# Altium schematic symbol library MMT_Connectors_Buttons_Switches.SchLib: 45 symbols
Pins are listed as number, name and electrical type; pins without a type are passive.

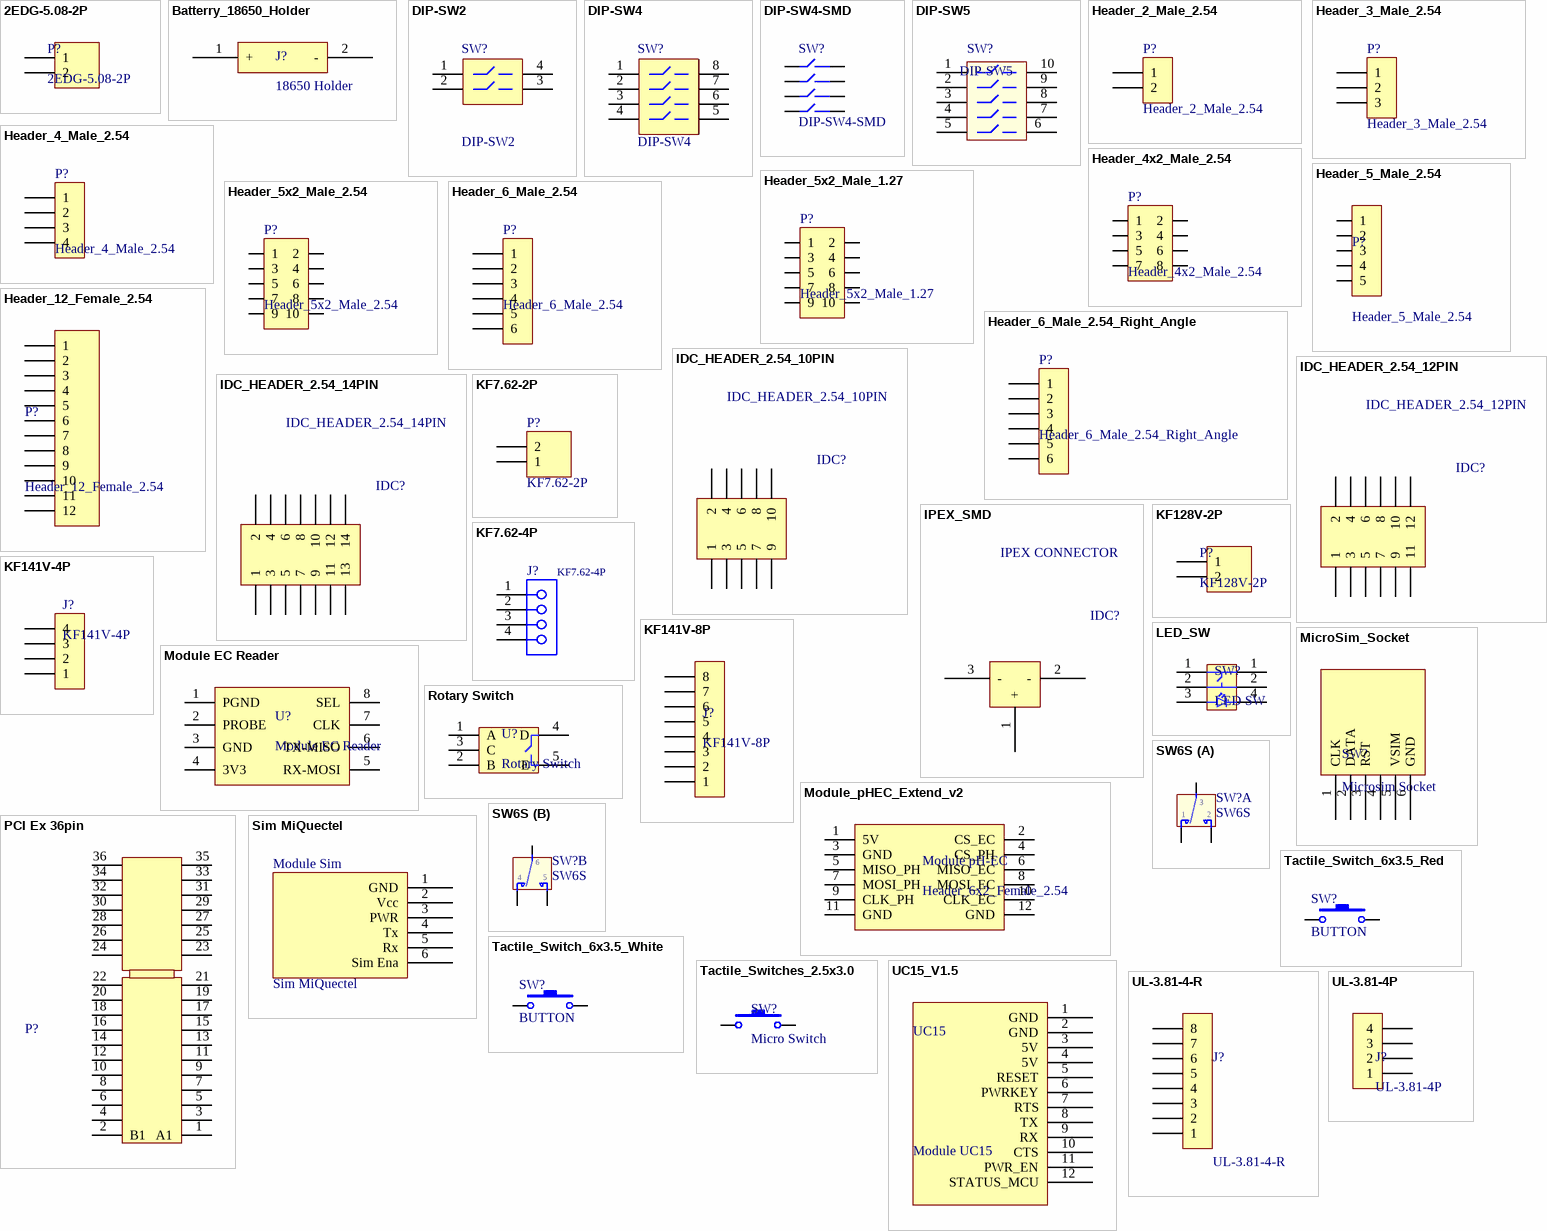
[diagram p0: symbols 2EDG-5.08-2P to UL-3.81-4P]

## 2EDG-5.08-2P
designator P?
Pluggable Terminal Blocks WR-TBL PCB Model 311 2Pin 5.08mm Cls Vtcl; Manufacturer: Wurth Elektronik; Part Number: 691311500102; Ex Price: 0.34; VN Price: 3000; Voltage/Wattage: 300V - 20A; Ex Supplier: https://www.mouser.vn/ProductDetail/Wurth-Elektronik/691311500102?qs=%2Fha2pyFaduhL3k1l8cITJNpuw5ctJaUN5kmE3D1IKhn6PrUHnsDfng%3D%3D; VN Supplier: https://thegioiic.com/products/terminal-block-2-chan-5-08-chan-thang-2edg-5-08-2p
footprint Terminal block 2Pin 5.08
pins: 1, 2

## Batterry_18650_Holder
designator J?, comment 18650 Holder
Cylindrical Battery Contacts, Clips, Holders & Springs 18650 SOLDER TAIL BATTERY HOLDER; Manufacturer: Keystone Electronics; Part Number: 1044; VN Price: 5500; Value: XH 4 pin pitch 2.54mm; Ex Price: 2.58; VN Supplier: https://thegioiic.com/products/de-pin-1x18650-han-pcb; Ex Supplier: https://www.mouser.vn/ProductDetail/Keystone-Electronics/1044?qs=sGAEpiMZZMvxqoKe%252BDjhrv8iQKYue1QF3iRAG8bJ8WC8IESDVkGZsQ==
footprint Battery 18650 Holder
pins: 1 +, 2 -

## DIP-SW2
designator SW?
2P-DSW, Pitch 2.54mm, RED, 50VDC 100mA; Manufacturer: Diptronics; Part Number: NDS-02V; Ex Price: 0.944; VN Price: 1880; Value: Dip Switch 2; Ex Supplier: https://www.mouser.vn/ProductDetail/Diptronics/NDS-02V?qs=sGAEpiMZZMv%2F%252B2JhlA6ysMFHxGixpP3prWf2laWpcr0%3D; VN Supplier: https://thegioiic.com/products/cong-tac-2bit-gat-top-dip-switch
footprint DIP SW 2P (2 PIN, W 400mil , L 450mil, Pin to pin 100mil For Switch)
pins: 1, 2, 3, 4

## DIP-SW4
designator SW?
4P-DSW, Pitch 2.54mm, RED, 50VDC 100mA; Manufacturer: Diptronics; Part Number: NDS-04V; Ex Price: 0.986; VN Price: 2870; Value: Dip Switch 4; Ex Supplier: https://www.mouser.vn/ProductDetail/Diptronics/NDS-04V?qs=sGAEpiMZZMv%2F%252B2JhlA6ysMFHxGixpP3pKeg53gIL1FQ%3D; VN Supplier: https://thegioiic.com/products/cong-tac-4bit-gat-top-dip-switch
footprint DIP SW 4P (8 PIN, W 400mil , L 450mil, Pin to pin 100mil For Switch)
pins: 1, 2, 3, 4, 5, 6, 7, 8

## DIP-SW4-SMD
designator SW?
Manufacturer: CTS Electronic Components; Part Number: 210-4MS; Ex Price: 0.55; VN Price: 4400; Voltage/Wattage: 50VDC/100mA; Ex Supplier: https://www.mouser.vn/ProductDetail/CTS-Electronic-Components/210-4MS?qs=sGAEpiMZZMv%2F%252B2JhlA6ysCW5ZokGCVhUlsBZXj97Ur0%3D; VN Supplier: https://thegioiic.com/products/cong-tac-4-bit-smd
footprint DIP SW 4P SMD
pins: 1, 2, 3, 4, 5, 6, 7, 8

## DIP-SW5
designator SW?
5P-DSW, Pitch 2.54MM, RED, 50Vdc 100mA; Manufacturer: Diptronics; Part Number: NDS-05V; VN Price: 3100; Value: Dip Switch 5; Ex Price: 1.72; VN Supplier: https://thegioiic.com/products/cong-tac-5-bit-gat-top-dip-switch; Ex Supplier: https://www.mouser.vn/ProductDetail/Diptronics/NDS-05V?qs=sGAEpiMZZMv%2F%252B2JhlA6ysNO310kSljHRTKm6401Towo=
footprint DIP SW 5P (10 PIN, W 400mil , L 450mil, Pin to pin 100mil For Switch)
pins: 1, 2, 3, 4, 5, 6, 7, 8, 9, 10

## Header_2_Male_2.54
designator P?
2.54mm 2x1 Single Male Pin Header; Manufacturer: Molex; VN Price: 200; Value: Header 2; Voltage/Wattage: 500V/4A; Ex Price: 0.096; VN Supplier: http://www.tme.vn/Product.aspx?id=518#page=pro_info; Ex Supplier: https://www.mouser.vn/ProductDetail/Molex/22-28-5023?qs=sGAEpiMZZMs%252BGHln7q6pm0R%252BIqgWC%252BQx%252BZP1khnW%252BIc%3D; Part Number: 22-28-5023
footprint HEADER_2_MALE
pins: 1, 2

## Header_3_Male_2.54
designator P?
2.54mm 3x1 Single Male Pin Header; Manufacturer: Molex; Ex Price: 0.27; VN Price: 2500; Value: Header 3; Voltage/Wattage: 500V/4A; Part Number: 22-28-8031; Ex Supplier: https://www.mouser.vn/ProductDetail/Molex/22-28-8031?qs=sGAEpiMZZMs%252BGHln7q6pmxD%2F5kNJnZVed6%252BwF0egRXs%3D; VN Supplier: http://www.tme.vn/Product.aspx?id=518#page=pro_info
footprint HEADER_3_MALE
pins: 1, 2, 3

## Header_4_Male_2.54
designator P?
2.54mm 4x1 Single Male Pin Header; Manufacturer: Molex; Ex Price: 0.34; VN Price: 2500; Value: Header 4; Voltage/Wattage: 500V/4A; Part Number: 22-28-8041; Ex Supplier: https://www.mouser.vn/ProductDetail/Molex/22-28-8041?qs=%2Fha2pyFadui70NFvRAbn%252BC%2FfLTOVR6y0%2FPOCLhktbL8%3D; VN Supplier: http://tme.vn/Product.aspx?id=518
footprint HEADER_4_MALE
pins: 1, 2, 3, 4

## Header_4x2_Male_2.54
designator P?
2.54mm 4x2 Male Pin Header; Manufacturer: MINTRON; Part Number: MTP125-1204S1; Ex Price: 0.86; VN Price: 4000; Voltage/Wattage: 500V/4A; Ex Supplier: https://lcsc.com/product-detail/Pin-Header-Female-Header_MINTRON-MTP125-1204S1_C358693.html; VN Supplier: http://www.tme.vn/Product.aspx?id=516#page=pro_info
footprint HEADER_4x2_MALE
pins: 1, 2, 3, 4, 5, 6, 7, 8

## Header_5_Male_2.54
designator P?
2.54mm 5 Male Pin Header; Manufacturer: MINTRON; Part Number: MTP125-1105S1; Ex Price: 0.025; VN Price: 700; Voltage/Wattage: 500V/4A; Ex Supplier: https://lcsc.com/product-detail/Pin-Header-Female-Header_MINTRON-MTP125-1105S1_C358687.html; VN Supplier: https://www.thegioiic.com/products/hang-rao-duc-don-2-54mm-40-chan-1-hang-cao-11-4mm-xuyen-lo
footprint HEADER_5_MALE_2.54
pins: 1, 2, 3, 4, 5

## Header_5x2_Male_1.27
designator P?
1.27mm 5x2 Male Pin Header; Manufacturer: Amphenol ICC; Part Number: 20021111-00010T4LF; Ex Price: 0.91; VN Price: 8000; Voltage/Wattage: 500V/4A; Ex Supplier: https://lcsc.com/product-detail/Pin-Header-Female-Header_Amphenol-ICC_20021111-00010T4LF_Amphenol-ICC-20021111-00010T4LF_C239059.html; VN Supplier: https://www.thegioiic.com/products/hang-rao-duc-doi-1-27mm-80-chan-2-hang-cao-7-2mm-xuyen-lo
footprint HEADER_5x2_MALE_1.27
pins: 1, 2, 3, 4, 5, 6, 7, 8, 9, 10

## Header_5x2_Male_2.54
designator P?
2.54mm 5x2 Male Pin Header; Manufacturer: MINTRON; Part Number: MTP125-1205S1; Ex Price: 0.053; VN Price: 1700; Voltage/Wattage: 500V/4A; Ex Supplier: https://lcsc.com/product-detail/Pin-Header-Female-Header_MINTRON-MTP125-1205S1_C358694.html; VN Supplier: https://www.thegioiic.com/products/hang-rao-duc-doi-2-54mm-80-chan-2-hang-cao-11-6mm-xuyen-lo
footprint HEADER_5x2_MALE_2.54
pins: 1, 2, 3, 4, 5, 6, 7, 8, 9, 10

## Header_6_Male_2.54
designator P?
2.54mm 6x1 Single Male Pin Header; Manufacturer: Molex; Ex Price: 0.44; VN Price: 2500; Value: Header 6; Voltage/Wattage: 500V/4A; Part Number: 22-28-8061; Ex Supplier: https://www.mouser.vn/ProductDetail/Molex/22-28-8061?qs=%2Fha2pyFadui70NFvRAbn%252BMxwCCe%2Fj8AV%2Frz%2FBwLPv6E=; VN Supplier: http://tme.vn/Product.aspx?id=518
footprint HEADER_6_MALE
pins: 1, 2, 3, 4, 5, 6

## Header_6_Male_2.54_Right_Angle
designator P?
2.54mm 6x1 Single Male Pin Header Right Angle; Manufacturer: Amphenol FCI; Part Number: 68016-406HLF; Ex Price: 0.36; VN Price: 950; Value: Header 6; Voltage/Wattage: 500V/4A; Ex Supplier: https://www.mouser.vn/ProductDetail/Amphenol-FCI/68016-406HLF?qs=sGAEpiMZZMs%252BGHln7q6pm2nKUjHUi6l6nMPj9nf11v0%3D; VN Supplier: https://thegioiic.com/products/hang-rao-2-54-duc-don-1x40pin-chan-cong-6mm
footprint HEADER_6_MALE_RIGHT_ANGLE
pins: 1, 2, 3, 4, 5, 6

## Header_12_Female_2.54
designator P?
2.54mm 12x1 Single Female Pin Header; Manufacturer: HOAUC; Part Number: 2685Y-112CNG1SNA01; Ex Price: 0.078461; VN Price: 2500; Value: Header 12 Female 2.54; Voltage/Wattage: 1A; Ex Supplier: https://lcsc.com/product-detail/Pin-Header-Female-Header_HOAUC-2685Y-112CNG1SNA01_C350303.html; VN Supplier: https://thegioiic.com/products/hang-rao-2-54-cai-don-1x40pin
footprint HEADER_12_MALE (Connector; Header; 12 Position)
pins: 1, 2, 3, 4, 5, 6, 7, 8, 9, 10, 11, 12

## IDC_HEADER_2.54_10PIN
designator IDC?
10P-2.54-DC3, 2x5-Pin, Pitch 2.54mm; Manufacturer: Wurth Elektronik; Part Number: 61201021621; VN Price: 1400; Value: IDC Header 2.54 10 Pin; Ex Price: 0.86; VN Supplier: https://thegioiic.com/products/cong-dc3-10pin-2-54-chan-thang; Ex Supplier: https://www.mouser.vn/ProductDetail/Wurth-Elektronik/61201021621?qs=sGAEpiMZZMs%252BGHln7q6pm%252BxnWLfLL2%2F93mYWvuMVZAY%3D; Voltage/Wattage: *
footprint IDC_HEADER_2.54_14PIN (14 pins, straight, gold plating)
pins: 1, 2, 3, 4, 5, 6, 7, 8, 9, 10

## IDC_HEADER_2.54_12PIN
designator IDC?
12P-2.54-DC3, 2x6-Pin, Pitch 2.54mm; Manufacturer: Molex; Part Number: 70246-1202; VN Price: 1600; Value: IDC Header 2.54 12 Pin; Ex Price: 2.4; VN Supplier: https://thegioiic.com/products/cong-dc3-12pin-2-54-chan-thang; Ex Supplier: https://www.mouser.vn/ProductDetail/Molex/70246-1202?qs=sGAEpiMZZMs%252BGHln7q6pm8NDWwBzqQCNgd4u%252B3qOMw8%3D
footprint IDC_HEADER_2.54_12PIN (12 pins, straight, gold plating)
pins: 1, 2, 3, 4, 5, 6, 7, 8, 9, 10, 11, 12

## IDC_HEADER_2.54_14PIN
designator IDC?
14P-2.54-DC3, 2x7-Pin, Pitch 2.54mm; Manufacturer: Wurth Elektronik; Part Number: 61201421621; VN Price: 1800; Value: IDC Header 2.54 14 Pin; Ex Price: 1.17; VN Supplier: https://thegioiic.com/products/cong-dc3-14pin-2-54-chan-thang; Ex Supplier: https://www.mouser.vn/ProductDetail/Wurth-Elektronik/61201421621?qs=sGAEpiMZZMs%252BGHln7q6pm%2FFhW%252BtWvhAggwcPHCC2CMNxOm0Mua7X2Q%3D%3D
footprint IDC_HEADER_2.54_14PIN (14 pins, straight, gold plating)
pins: 1, 2, 3, 4, 5, 6, 7, 8, 9, 10, 11, 12, 13, 14

## IPEX_SMD
designator IDC?, comment IPEX CONNECTOR
U.FL Ultra Miniature Coaxial Receptacle，Male Pin 50 Ohm 6GHz SMD RF Connectors/Coaxial Connectors RoHS; Manufacturer: HRS(Hirose); Part Number: U.FL-R-SMT-1(10); VN Price: 1200; Value: U.FL-R-SMT-1(10); Ex Price: 0.16; VN Supplier: https://thegioiic.com/products/ipex-u-fl-r-smt-rf-connector; Ex Supplier: https://www.mouser.vn/ProductDetail/Samtec/RSP-122811-01?qs=sGAEpiMZZMuLQf%252BEuFsOrlv1tJE0WpAradnmvMVvums%3D; Package: SMD
footprint ANTENA-UMC (Ultra Small Coaxial RF Connector 1-6GHz 50R Male 3-Pad)
pins: 1 +, 2 -, 3 -

## KF7.62-2P
designator P?
Barrier Terminal Blocks 2 pin pitch 7.62; Manufacturer: Amphenol Anytek; Part Number: YK3050213000G; VN Price: 1400; Voltage/Wattage: 300V/15A; Ex Price: 0.53; VN Supplier: https://thegioiic.com/products/kf7-62-2-terminal-2-cuc-20a-300v-7-62mm; Ex Supplier: https://www.mouser.vn/ProductDetail/Amphenol-Anytek/YK3050213000G?qs=T3oQrply3y%2F05mDvunk06w%3D%3D
footprint KF7.62-2P
pins: 1, 2

## KF7.62-4P
designator J?
4P Barrier Terminal Blocks RoHS; Part Number: WJ762-7.62-4P-13-00A; Manufacturer: Kefa Electronics; Pin Number: 4; Pitch: 2.54 mm; VN Price: 2500; ComponentLink1Description: Manufacturer; ComponentLink2URL: http://katalog.we-online.de/em/datasheet/6914039000xxB.pdf; Publisher: Wurth Elektronik; Operating Temperature: -40 to 115 degC; Mounting Technology: THT; VN Supplier: https://thegioiic.com/products/kf7-62-4-terminal-4-cuc-24a-450v-7-62mm; Value: KF7.62-4P; Ex Price: *; Package: *; Tolerance: *
footprint KF7.62-4P
pins: 1, 2, 3, 4

## KF128V-2P
designator P?
Fixed Terminal Blocks WR-TBL Terminal Block - Rising Cage - THT 2 Positions 3.50 mm Pitch 10A; Manufacturer: Wurth Elektronik; Part Number: 691214110002; Ex Price: 0.83; VN Price: 2200; Value: Terminal 2P 3.5; Voltage/Wattage: 300V - 20A; Ex Supplier: https://www.mouser.vn/ProductDetail/Wurth-Elektronik/691214110002?qs=sGAEpiMZZMvZTcaMAxB2AHc%2Flkca1rcTw%252BBy6B6lIsB%2FttEijmIyBA%3D%3D; VN Supplier: https://thegioiic.com/products/2p-kf128v-domino-2-chan-thang-3-5mm-han-pcb
footprint Terminal Block 2 pin 3.5mm (Header 2, 2 pin, hight 300mil, Pin to Pin 200, Colour Green)
pins: 1, 2

## KF141V-4P
designator J?
4Pcs KF141V 4P 2.54mm Pitch Spring Type PCB Terminal Blocks Connector Green; VN Price: 5000; Voltage/Wattage: 150V/2A; VN Supplier: https://thegioiic.com/products/4p-kf141v-terminal-block-doc-4-chan-2-54
footprint KF141V-4P (4P-KF141V Terminal Block Straight 4 position 2.54)
pins: 1, 2, 3, 4

## KF141V-8P
designator J?
8Pcs KF141V 8P 2.54mm Pitch Spring Type PCB Terminal Blocks Connector Green; VN Price: 9000; Voltage/Wattage: 150V/2A; VN Supplier: https://thegioiic.com/products/8p-kf141v-terminal-block-doc-8-chan-2-54
footprint KF141V-8P (8P-KF141V Terminal Block Straight 8 position 2.54)
pins: 1, 2, 3, 4, 5, 6, 7, 8

## LED_SW
designator SW?, comment LED SW
Led Switch 12x12x7mm; VN Price: 7000; VN Supplier: https://giaiphapdientuitc.vn/san-pham/linh-kien-dien-tu/nut-nhan-12x12x7mm-co-den-green/
footprint LED_SW
pins: 1 A, 1 C, 2 B, 2 D, 3 E, 4 F

## MicroSim_Socket
designator SW?, comment Microsim Socket
SIM Card 6 connector&Ejector 17.20x15.30x1.35mm Card Sockets Connectors RoHS; Manufacturer: XUNPU; Part Number: SMC-202-6; VN Price: 5300; Voltage/Wattage: 0.5A; Ex Price: 0.48; Ex Supplier: https://www.mouser.vn/ProductDetail/CK/PTS636-SKG25J-SMTR-LFS?qs=sGAEpiMZZMsgGjVA3toVBC4OPD95ORcg7gDYNlS4DF8%3D; VN Supplier: https://thegioiic.com/products/khe-cam-microsim-6pin-push-push-v2; Package: 17.20x15.30x1.35mm; Value: Microsim Socket
footprint SIM uSocket
pins: 1 CLK, 2 DATA, 3 RST, 4, 5 VSIM, 6 GND

## Module EC Reader
designator U?
Module EC Reader - MimosaTEK; Manufacturer: MINTRON; Part Number: MTF185-104SY1; Ex Price: 0.055; VN Price: 1800; Voltage/Wattage: 350V/3A; Ex Supplier: https://lcsc.com/product-detail/Pin-Header-Female-Header_MINTRON-MTF185-104SY1_C358718.html; VN Supplier: https://www.thegioiic.com/products/hang-rao-cai-don-2-54mm-40-chan-1-hang-cao-11-8mm-xuyen-lo; Quantity: 2
footprint Module EC Reader
pins: 1 PGND, 2 PROBE, 3 GND, 4 3V3, 5 RX-MOSI, 6 TX-MISO, 7 CLK, 8 SEL

## Module_pHEC_Extend_v2
designator Module pH-EC, comment Header_6x2_Female_2.54
12 Position Header Connector 0.100" (2.54mm) Through Hole Tin; Manufacturer: Sullins Connector Solutions; Part Number: S7074-ND; Ex Price: 0.79; VN Price: 4000; Voltage/Wattage: 350V/3A; Ex Supplier: https://www.digikey.com/product-detail/en/sullins-connector-solutions/PPTC062LFBN-RC/S7074-ND/810212; VN Supplier: http://tme.vn/Product.aspx?id=517#page=pro_info
footprint MODULE_PHEC_FEMALE_6X2 (12 pins, straight, gold plating)
pins: 1 5V, 2 CS_EC, 3 GND, 4 CS_PH, 5 MISO_PH, 6 MISO_EC, 7 MOSI_PH, 8 MOSI_EC, 9 CLK_PH, 10 CLK_EC, 11 GND, 12 GND

## PCI Ex 36pin
designator P?, comment PCI_36P  (value not drawn)
PCI Express / PCI Connectors PCI EXPRESS 36POS SMT; Manufacturer: Amphenol FCI; Part Number: 10061913-110PLF; Ex Price: 1.95; Value: 36 Position; Voltage/Wattage: 300VAC; Ex Supplier: https://www.mouser.vn/ProductDetail/649-10061913-110PLF
footprint PCI Ex 36 Pin
pins: 1 A1, 2 B1, 3, 4, 5, 6, 7, 8, 9, 10, 11, 12, 13, 14, 15, 16, 17, 18, 19, 20, 21, 22, 23, 24, 25, 26, 27, 28, 29, 30, 31, 32, 33, 34, 35, 36

## Rotary Switch
designator U?
Manufacturer: ALPS Electric; Part Number: EC11E15244G1; Ex Price: 1.5; VN Price: 7000; Ex Supplier: https://lcsc.com/product-detail/Coded-Rotary-Switches_ALPS-Electric-EC11E15244G1_C370970.html; VN Supplier: https://giaiphapdientuitc.vn/san-pham/linh-kien-dien-tu/nut-nhan-12x12x7mm-co-den-green/
footprint Rotary Switch
pins: 1 A, 2 B, 3 C, 4 D, 5 E

## Sim MiQuectel
designator Module Sim
Module Sim MimosaTEK; Part Number: C74252; Ex Price: 0.46; VN Price: 2500; Voltage/Wattage: 500V/4A; Manufacturer: MimosaTEK; Ex Supplier: https://lcsc.com/product-detail/Pin-Header-Female-Header_BOOMELE-Boom-Precision-Elec-C74252_C74252.html; VN Supplier: http://www.tme.vn/Product.aspx?id=518#page=pro_info
footprint Sim MiQuectel (Modelu sim MiQuectel)
footprint Sim MiQuectel_1_Rail (Modelu sim MiQuectel)
pins: 1 GND, 2 Vcc, 3 PWR, 4 Tx, 5 Rx, 6 Sim Ena

## SW6S
designator SW?
SW-DTDP - 6 Pin; Manufacturer: E-Switch; Part Number: TL2285OA; Value: SW6; VN Price: 2000; Ex Price: 0.81; VN Supplier: http://tme.vn/Product.aspx?id=853#page=pro_info; Ex Supplier: https://www.mouser.vn/ProductDetail/E-Switch/TL2285OA?qs=sGAEpiMZZMvxtGF7dlGNph8BtQbu9yalFIJP705t%2FEA%3D; Package: *; Tolerance: *
footprint SW6 (SW DTDP - 6Pin 260x300x300 mil)
part A pins: 1, 2, 3
part B pins: 4, 5, 6

## Tactile_Switch_6x3.5_Red
designator SW?, comment BUTTON
Tactile Switches Tact 50mA 12VDC, 6.0x3.5, 2.5mm H, 250gf, J leads, Ground pin, Red Actuator; Manufacturer: C&K; Part Number: PTS636 SKG25J SMTR LFS; VN Price: 700; Value: Tactile Switch 6x3.5 Red Actuator; Voltage/Wattage: 12VDC/50mA; Ex Price: 0.13; Ex Supplier: https://www.mouser.vn/ProductDetail/CK/PTS636-SKG25J-SMTR-LFS?qs=sGAEpiMZZMsgGjVA3toVBC4OPD95ORcg7gDYNlS4DF8%3D; VN Supplier: https://thegioiic.com/products/nut-nhan-3x6x2-5-2pin-smd-dau-do; Package: 6x3.5x2.5; Tolerance: *
footprint TACTILE_SWITCH_RED (Tactile Switch SMD Red cap)
pins: 1, 2

## Tactile_Switch_6x3.5_White
designator SW?, comment BUTTON
Tactile Switches Tact 50mA 12VDC, 6.0x3.5, 2.5mm H, 180gf, F leads, No ground pin, White Actuator; Manufacturer: C&K; Part Number: PTS636 SM25F SMTR LFS; VN Price: 700; Value: Tactile Switch 6x3.5 White; Voltage/Wattage: 12VDC/50mA; Ex Price: 0.13; Ex Supplier: https://www.mouser.vn/ProductDetail/CK/PTS636-SM25F-SMTR-LFS?qs=sGAEpiMZZMsgGjVA3toVBC4OPD95ORcgmbzfWa3%2Ffus%3D; VN Supplier: https://thegioiic.com/products/nut-nhan-3-5x6x2-5-2pin-smd-dau-trang; Package: 6x3.5x2.5; Tolerance: *
footprint TACTILE_SWITCH_WHITE (Tactile Switch SMD White Actuator)
pins: 1, 2

## Tactile_Switches_2.5x3.0
designator SW?, comment Micro Switch
Tactile Switches Top Act. w/out Boss w/out Ground Term; Manufacturer: Omron Electronics; Part Number: B3U-1000P; Ex Price: 0.97; VN Price: 3000; Ex Supplier: https://www.mouser.vn/ProductDetail/Omron-Electronics/B3U-1000P?qs=sGAEpiMZZMsgGjVA3toVBD%252BqDoRYvPtZBt73XVLWoZs%3D; VN Supplier: http://tme.vn/Product.aspx?id=1962; Package: 2.5x3.0x1.6mm
footprint TACTILE_MICRO_SWITCH
pins: 1, 2

## UC15_V1.5
designator UC15, comment Module UC15
Module UC15_V1.5 MimosaTEK; Manufacturer: MimosaTEK
footprint Sim UC15_V1_5 (Module Sim MiQuectel)
footprint Sim UC15_V1_5 - 1 rail (Module Sim MiQuectel)
pins: 1 GND, 2 GND, 3 5V, 4 5V, 5 RESET, 6 PWRKEY, 7 RTS, 8 TX, 9 RX, 10 CTS, 11 PWR_EN, 12 STATUS_MCU

## UL-3.81-4-R
designator J?
4P-3.81-R, 4pin, pitch: 3.81mm, 300V, 10A; Manufacturer: Ningbo Kangnex Elec; Part Number: WJ15EDGRC-3.81-4P; Ex Price: 0.06; VN Price: 6600; Voltage/Wattage: 300VAC/10A; VN Supplier: https://www.thegioiic.com/products/ul-3-81-4-r-terminal-block-plug-in-han-pcb-4-chan-cong-3-81mm-ulo; Ex Supplier: https://lcsc.com/product-detail/Pluggable-System-Terminal-Block_Ningbo-Kangnex-Elec-WJ15EDGRC-3-81-4P_C7245.html
footprint UL-3.81-8P (3,81mm - PCB Headers)
pins: 1, 2, 3, 4, 5, 6, 7, 8

## UL-3.81-4P
designator J?
4P-3.81-TB1-V, 4pin, pitch: 3.81mm, 300V, 10A; Manufacturer: Wurth Electronics; Part Number: 691321300004; VN Price: 5000; Value: Terminal 4 pin pitch 3.81mm; Voltage/Wattage: 300V/10A; Ex Price: 0.78; VN Supplier: https://thegioiic.com/products/terminal-block-4pin-3-81-chan-thang; Ex Supplier: https://www.mouser.vn/ProductDetail/Wurth-Electronics/691321300004?qs=sGAEpiMZZMsDddcp1dBDJB2gkPKmD00Y3KxMGgNaNegOWZkZi8%2Fegw%3D%3D; Package: *; Tolerance: *
footprint TERMINAL BLOCK 4PIN 3.81
pins: 1, 2, 3, 4

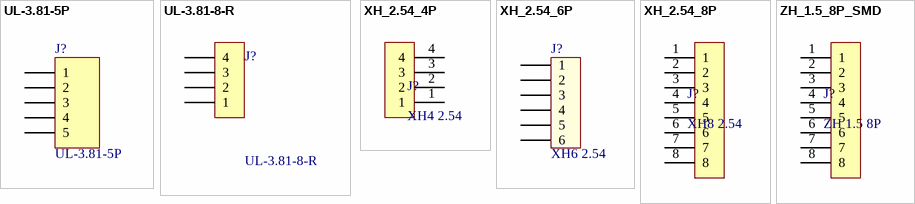
[diagram p1: symbols UL-3.81-5P to ZH_1.5_8P_SMD]

## UL-3.81-5P
designator J?
5P-3.81-TB1-V, 5pin, pitch: 3.81mm, 300V, 10A; Manufacturer: Pluggable Terminal Blocks WR-TBL Terminal Block - PCB Header - THT 5 Positions 3.81 mm Pitch 10A; Part Number: 691321300005; Ex Price: 1.09; VN Price: 8300; Voltage/Wattage: 300VAC/10A; VN Supplier: https://thegioiic.com/products/ul-3-81-5p-terminal-block-5-chan-thang-3-81mm; Ex Supplier: https://www.mouser.vn/ProductDetail/Wurth-Elektronik/691321300005?qs=%2Fha2pyFaduj%252B%2FFQe8zqU5%252BHUtK1H0yLH7dO%2FXdMpZkHFN7gpukzDNA%3D%3D
footprint UL-3.81-5P (3,81mm - PCB Headers - Vertical - 05p)
pins: 1, 2, 3, 4, 5

## UL-3.81-8-R
designator J?
8P-3.81-R, 8pin, pitch: 3.81mm, 300V, 10A; Manufacturer: Ningbo Kangnex Elec; Part Number: WJ15EDGRC-3.81-8P; Ex Price: 0.125; VN Price: 11000; Voltage/Wattage: 300VAC/10A; VN Supplier: https://www.thegioiic.com/products/ul-3-81-8-r-terminal-block-plug-in-han-pcb-8-chan-cong-3-81mm-ulo; Ex Supplier: https://lcsc.com/product-detail/Pluggable-System-Terminal-Block_Ningbo-Kangnex-Elec-WJ15EDGVC-3-81-8P_C31930.html
footprint UL-3.81-8P (3,81mm - PCB Headers)
pins: 1, 2, 3, 4

## XH_2.54_4P
designator J?, comment XH4 2.54
4P, 2.54mm, 250V, 3A; Manufacturer: BOOMELE(Boom Precision Elec); Part Number: XH-4A; VN Price: 300; Value: XH 4 pin; Voltage/Wattage: 250V/3A; VN Supplier: https://thegioiic.com/products/cong-xh2-54-4-chan-thang; Ex Supplier: https://lcsc.com/product-detail/Wire-To-Board-Wire-To-Wire-Connector_BOOMELE-Boom-Precision-Elec-XH-4A_C37815.html
footprint XH 4PIN 2.5
pins: 1, 2, 3, 4

## XH_2.54_6P
designator J?, comment XH6 2.54
4P, 2.54mm, 250V, 3A; Manufacturer: *; Part Number: *; Package: *; Ex Supplier: *; Ex Price: *; VN Supplier: *; VN Price: *; Value: *; Tolerance: *; Voltage/Wattage: *
footprint XH 6PIN 2.54
pins: 1, 2, 3, 4, 5, 6

## XH_2.54_8P
designator J?, comment XH8 2.54
8P, 2.54mm, 250V, 3A; VN Price: 300; Value: XH 8 pin pitch 2.54mm; Voltage/Wattage: 250V/3A; VN Supplier: https://thegioiic.com/products/cong-xh2-54-8-chan-thang
footprint XH 8PIN 2.5
pins: 1, 2, 3, 4, 5, 6, 7, 8

## ZH_1.5_8P_SMD
designator J?, comment ZH 1.5 8P
8P, 1.5mm, SMD; Manufacturer: JST Sales America Inc.; Part Number: S8B-ZR-SM4A-TF(LF)(SN); VN Price: 1050; Value: ZH 8 pin pitch 1.5mm; Ex Price: 0.464; VN Supplier: https://thegioiic.com/products/cong-zh1-5-8pin-smd; Ex Supplier: https://www.digikey.com/product-detail/en/jst-sales-america-inc/S8B-ZR-SM4A-TF-LF-SN/455-1698-2-ND/926605
footprint ZH1.5 8P
pins: 1, 2, 3, 4, 5, 6, 7, 8